# Altium schematic symbol library k7sch3.SchLib: 7 symbols
Pins are listed as number, name and electrical type; pins without a type are passive.

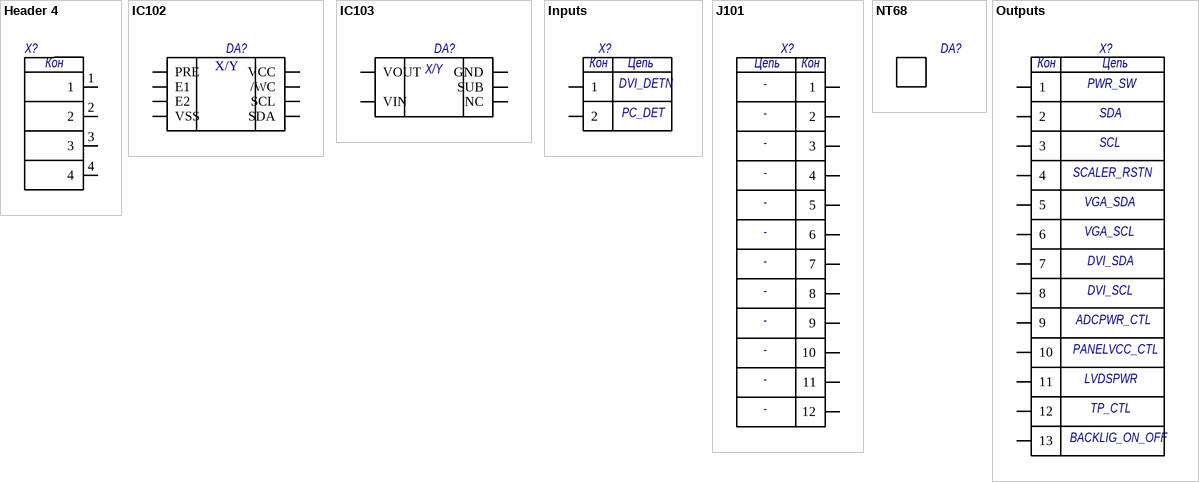
[diagram p0: symbols Header 4 to Outputs]

## Header 4
designator X?  (value not drawn)
footprint Header 4
pins: 1, 2, 3, 4
text: Кон

## IC102
designator DA?  (value not drawn)
footprint IC102
pins: 1 PRE, 2 E1, 3 E2, 4 VSS, 5 VCC, 6 /WC, 7 SCL, 8 SDA
text: X/Y

## IC103
designator DA?  (value not drawn)
footprint IC103
pins: 1 GND, 2 SUB, 3 NC, 4 VOUT, 5 VIN
text: X/Y

## Inputs
designator X?  (value not drawn)
footprint Inputs
pins: 1, 2
text: Кон; Цепь; DVI_DETN; PC_DET

## J101
designator X?  (value not drawn)
footprint J101
pins: 1, 2, 3, 4, 5, 6, 7, 8, 9, 10, 11, 12
text: Цепь; Кон; -

## NT68
designator DA?  (value not drawn)

## Outputs
designator X?  (value not drawn)
footprint Outputs
pins: 1, 2, 3, 4, 5, 6, 7, 8, 9, 10, 11, 12, 13
text: Кон; Цепь; PWR_SW; SDA; SCL; SCALER_RSTN; VGA_SDA; VGA_SCL; DVI_SDA; DVI_SCL; ADCPWR_CTL; PANELVCC_CTL; LVDSPWR; TP_CTL; BACKLIG_ON_OFF